# EAGLE library part AD8403-DIP24 (library mylib2)
AD8403 with 24PIN DIP化基板
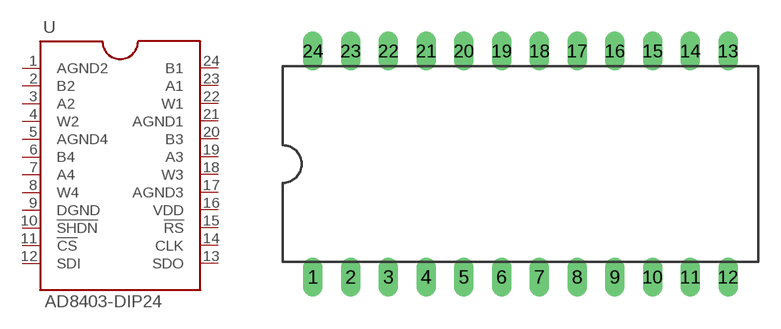
[diagram p14: symbol with the pads of AD8403_DIP24; footprint AD8403_DIP24]

Designator prefix -

## AD8403-DIP24  [AD8403_DIP24]
1  AGND2  pas
2  B2  pas
3  A2  pas
4  W2  pas
5  AGND4  pas
6  B4  pas
7  A4  pas
8  W4  pas
9  DGND  pas
10  !SHDN  pas
11  !CS  pas
12  SDI  pas
13  SDO  pas
14  CLK  pas
15  !RS  pas
16  VDD  pas
17  AGND3  pas
18  W3  pas
19  A3  pas
20  B3  pas
21  AGND1  pas
22  W1  pas
23  A1  pas
24  B1  pas

## Footprint AD8403_DIP24 (pad centres in mm)
drill 0.813 long: 1 -13.97,-7.62; 2 -11.43,-7.62; 3 -8.89,-7.62; 4 -6.35,-7.62; 5 -3.81,-7.62; 6 -1.27,-7.62; 7 1.27,-7.62; 8 3.81,-7.62; 9 6.35,-7.62; 10 8.89,-7.62; 11 11.43,-7.62; 12 13.97,-7.62; 13 13.97,7.62; 14 11.43,7.62; 15 8.89,7.62; 16 6.35,7.62; 17 3.81,7.62; 18 1.27,7.62; 19 -1.27,7.62; 20 -3.81,7.62; 21 -6.35,7.62; 22 -8.89,7.62; 23 -11.43,7.62; 24 -13.97,7.62